# EAGLE library part LYSY300AL_Z-AXIS_GYRO (library Gyros)
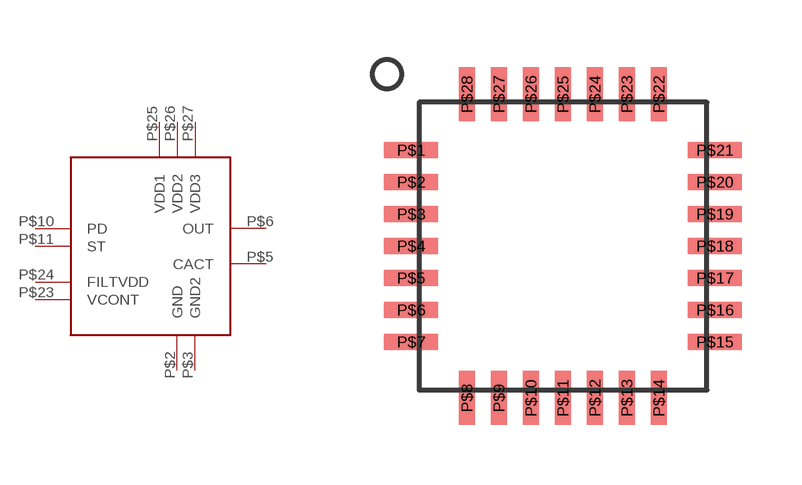
[diagram p1: symbol with the pads of LGA28; footprint LGA28]

Designator prefix -

## LYSY300AL_Z-AXIS_GYRO  [LGA28]
P$2  GND
P$3  GND2
P$5  CACT
P$6  OUT
P$10  PD
P$11  ST
P$23  VCONT
P$24  FILTVDD
P$25  VDD1
P$26  VDD2
P$27  VDD3

## Footprint LGA28 (pad centres in mm)
smd 1.35 x 0.4: P$1 -3.8,2.4; P$2 -3.8,1.6; P$3 -3.8,0.8; P$4 -3.8,0; P$5 -3.8,-0.8; P$6 -3.8,-1.6; P$7 -3.8,-2.4; P$15 3.8,-2.4; P$16 3.8,-1.6; P$17 3.8,-0.8; P$18 3.8,0; P$19 3.8,0.8; P$20 3.8,1.6; P$21 3.8,2.4
smd 0.4 x 1.35: P$8 -2.4,-3.8; P$9 -1.6,-3.8; P$10 -0.8,-3.8; P$11 0,-3.8; P$12 0.8,-3.8; P$13 1.6,-3.8; P$14 2.4,-3.8; P$22 2.4,3.8; P$23 1.6,3.8; P$24 0.8,3.8; P$25 0,3.8; P$26 -0.8,3.8; P$27 -1.6,3.8; P$28 -2.4,3.8